# Altium schematic symbol library SCH - AMP AUDIO - ANALOG SSM3302ACPZ.SchLib: 1 symbol
Pins are listed as number, name and electrical type; pins without a type are passive.

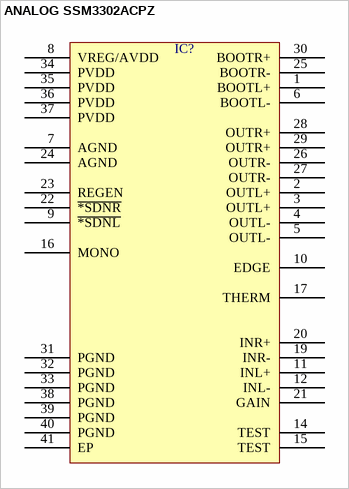
[diagram p0: symbol ANALOG SSM3302ACPZ]

## ANALOG SSM3302ACPZ
designator IC?  (value not drawn)
pins: 1 BOOTL+, 2 OUTL+, 3 OUTL+, 4 OUTL-, 5 OUTL-, 6 BOOTL-, 7 AGND, 8 VREG/AVDD, 9 ~{*SDNL}, 10 EDGE, 11 INL+, 12 INL-, 14 TEST, 15 TEST, 16 MONO, 17 THERM, 19 INR-, 20 INR+, 21 GAIN, 22 ~{*SDNR}, 23 REGEN, 24 AGND, 25 BOOTR-, 26 OUTR-, 27 OUTR-, 28 OUTR+, 29 OUTR+, 30 BOOTR+, 31 PGND, 32 PGND, 33 PGND, 34 PVDD, 35 PVDD, 36 PVDD, 37 PVDD, 38 PGND, 39 PGND, 40 PGND, 41 EP